# EAGLE library part NHD-C0216CIZ-FSW-FBW-3V3 (library marius)
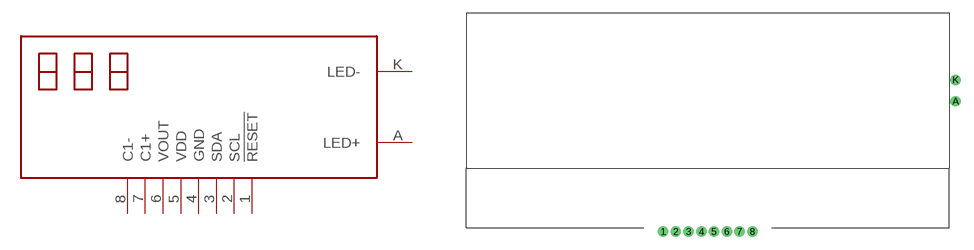
[diagram p26: symbol with the pads of NHD-C0216CIZ-FSW-FBW-3V3; footprint NHD-C0216CIZ-FSW-FBW-3V3]

Designator prefix -

## NHD-C0216CIZ-FSW-FBW-3V3 (MPN: NHD-C0216CIZ-FSW-FBW-3V3)  [NHD-C0216CIZ-FSW-FBW-3V3]
1  !RESET
2  SCL
3  SDA
4  GND
5  VDD
6  VOUT
7  C1+
8  C1-
A  LED+
K  LED-

## Footprint NHD-C0216CIZ-FSW-FBW-3V3 (pad centres in mm)
drill 0.7: 1 -5.25,-16.59; 2 -3.75,-16.59; 3 -2.25,-16.59; 4 -0.75,-16.59; 5 0.75,-16.59; 6 2.25,-16.59; 7 3.75,-16.59; 8 5.25,-16.59; A 29.15,-1.25; K 29.15,1.25